# Altium footprint library IPC-SM-782 Section 14.1.2 PBGA 1.27mm.PcbLib: 49 footprints (part 1 of 11)
Each footprint in its own frame and in the unit in brackets; x right, y up, seen from the top. Pads: shape width x height; smd on the part's side, far side on the other; paste and mask are expansions set on the pad; w line width, h text height; cw(c..) or ccw(c..) is an arc to the next point about the centre after c.
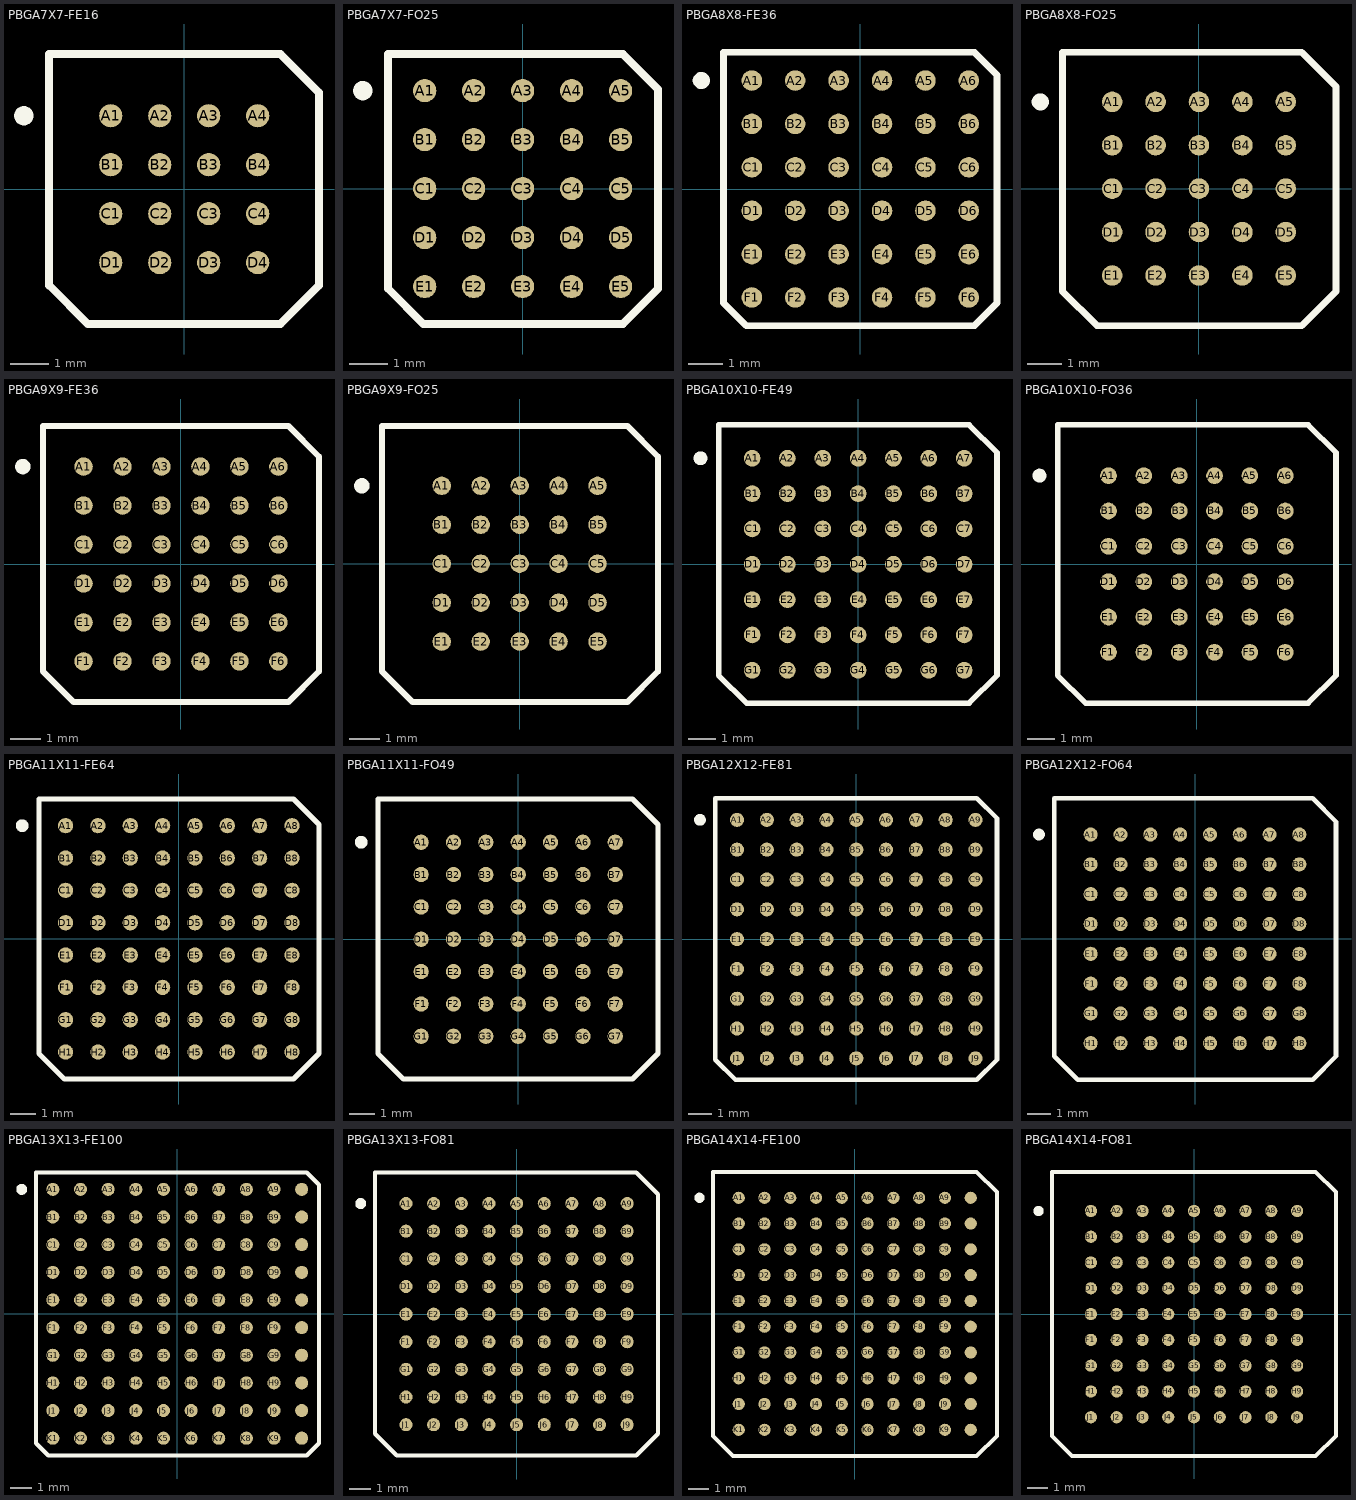
[diagram p0: the footprints below, top view; thin cyan lines are the x and y axes]

## PBGA7X7-FE16 [mm] "BGA; 16 Balls; Body 7 x 7 mm; Pitch 1.27 mm"
height 3.5
pads (16):
  round 0.6 smd: A1(-1.905,1.905) A2(-0.635,1.905) A3(0.635,1.905) A4(1.905,1.905) B1(-1.905,0.635) B2(-0.635,0.635) B3(0.635,0.635) B4(1.905,0.635) C1(-1.905,-0.635) C2(-0.635,-0.635) C3(0.635,-0.635) C4(1.905,-0.635) D1(-1.905,-1.905) D2(-0.635,-1.905) D3(0.635,-1.905) D4(1.905,-1.905)
Top Overlay:
  circle w0.25: c-4.16,1.905 r0.125
  lines w0.2: -3.505,-2.495 -2.505,-3.495 2.495,-3.495 3.495,-2.495 3.495,2.505 2.495,3.505 -3.505,3.505 -3.505,-2.495

## PBGA7X7-FO25 [mm] "BGA; 25 Balls; Body 7 x 7 mm; Pitch 1.27 mm"
height 3.5
pads (25):
  round 0.6 smd: A1(-2.54,2.54) A2(-1.27,2.54) A3(0,2.54) A4(1.27,2.54) A5(2.54,2.54) B1(-2.54,1.27) B2(-1.27,1.27) B3(0,1.27) B4(1.27,1.27) B5(2.54,1.27) C1(-2.54,0) C2(-1.27,0) C3(0,0) C4(1.27,0) C5(2.54,0) D1(-2.54,-1.27) D2(-1.27,-1.27) D3(0,-1.27) D4(1.27,-1.27) D5(2.54,-1.27) E1(-2.54,-2.54) E2(-1.27,-2.54) E3(0,-2.54) E4(1.27,-2.54) E5(2.54,-2.54)
Top Overlay:
  circle w0.25: c-4.145,2.54 r0.125
  lines w0.2: -3.49,-2.6 -3.49,3.49 2.6,3.49 3.51,2.58 3.51,-2.6 2.6,-3.51 -2.58,-3.51 -3.49,-2.6

## PBGA8X8-FE36 [mm] "BGA; 36 Balls; Body 8 x 8 mm; Pitch 1.27 mm"
height 3.5
pads (36):
  round 0.6 smd: A1(-3.175,3.175) A2(-1.905,3.175) A3(-0.635,3.175) A4(0.635,3.175) A5(1.905,3.175) A6(3.175,3.175) B1(-3.175,1.905) B2(-1.905,1.905) B3(-0.635,1.905) B4(0.635,1.905) B5(1.905,1.905) B6(3.175,1.905) C1(-3.175,0.635) C2(-1.905,0.635) C3(-0.635,0.635) C4(0.635,0.635) C5(1.905,0.635) C6(3.175,0.635) D1(-3.175,-0.635) D2(-1.905,-0.635) D3(-0.635,-0.635) D4(0.635,-0.635) D5(1.905,-0.635) D6(3.175,-0.635) E1(-3.175,-1.905) E2(-1.905,-1.905) E3(-0.635,-1.905) E4(0.635,-1.905) E5(1.905,-1.905) E6(3.175,-1.905) F1(-3.175,-3.175) F2(-1.905,-3.175) F3(-0.635,-3.175) F4(0.635,-3.175) F5(1.905,-3.175) F6(3.175,-3.175)
Top Overlay:
  circle w0.25: c-4.655,3.175 r0.125
  lines w0.2: -4,-3.34 -3.34,-4 3.34,-4 4,-3.34 4,3.34 3.34,4 -4,4 -4,-3.34

## PBGA8X8-FO25 [mm] "BGA; 25 Balls; Body 8 x 8 mm; Pitch 1.27 mm"
height 3.5
pads (25):
  round 0.6 smd: A1(-2.54,2.54) A2(-1.27,2.54) A3(0,2.54) A4(1.27,2.54) A5(2.54,2.54) B1(-2.54,1.27) B2(-1.27,1.27) B3(0,1.27) B4(1.27,1.27) B5(2.54,1.27) C1(-2.54,0) C2(-1.27,0) C3(0,0) C4(1.27,0) C5(2.54,0) D1(-2.54,-1.27) D2(-1.27,-1.27) D3(0,-1.27) D4(1.27,-1.27) D5(2.54,-1.27) E1(-2.54,-2.54) E2(-1.27,-2.54) E3(0,-2.54) E4(1.27,-2.54) E5(2.54,-2.54)
Top Overlay:
  circle w0.25: c-4.645,2.54 r0.125
  lines w0.2: -3.99,-3.01 -2.99,-4.01 3.01,-4.01 4.01,-3.01 4.01,2.99 3.01,3.99 -3.99,3.99 -3.99,-3.01

## PBGA9X9-FE36 [mm] "BGA; 36 Balls; Body 9 x 9 mm; Pitch 1.27 mm"
height 3.5
pads (36):
  round 0.6 smd: A1(-3.175,3.175) A2(-1.905,3.175) A3(-0.635,3.175) A4(0.635,3.175) A5(1.905,3.175) A6(3.175,3.175) B1(-3.175,1.905) B2(-1.905,1.905) B3(-0.635,1.905) B4(0.635,1.905) B5(1.905,1.905) B6(3.175,1.905) C1(-3.175,0.635) C2(-1.905,0.635) C3(-0.635,0.635) C4(0.635,0.635) C5(1.905,0.635) C6(3.175,0.635) D1(-3.175,-0.635) D2(-1.905,-0.635) D3(-0.635,-0.635) D4(0.635,-0.635) D5(1.905,-0.635) D6(3.175,-0.635) E1(-3.175,-1.905) E2(-1.905,-1.905) E3(-0.635,-1.905) E4(0.635,-1.905) E5(1.905,-1.905) E6(3.175,-1.905) F1(-3.175,-3.175) F2(-1.905,-3.175) F3(-0.635,-3.175) F4(0.635,-3.175) F5(1.905,-3.175) F6(3.175,-3.175)
Top Overlay:
  circle w0.25: c-5.155,3.175 r0.125
  lines w0.2: -4.5,-3.5 -4.5,4.5 3.5,4.5 4.5,3.5 4.5,-3.5 3.5,-4.5 -3.5,-4.5 -4.5,-3.5

## PBGA9X9-FO25 [mm] "BGA; 25 Balls; Body 9 x 9 mm; Pitch 1.27 mm"
height 3.5
pads (25):
  round 0.6 smd: A1(-2.54,2.54) A2(-1.27,2.54) A3(0,2.54) A4(1.27,2.54) A5(2.54,2.54) B1(-2.54,1.27) B2(-1.27,1.27) B3(0,1.27) B4(1.27,1.27) B5(2.54,1.27) C1(-2.54,0) C2(-1.27,0) C3(0,0) C4(1.27,0) C5(2.54,0) D1(-2.54,-1.27) D2(-1.27,-1.27) D3(0,-1.27) D4(1.27,-1.27) D5(2.54,-1.27) E1(-2.54,-2.54) E2(-1.27,-2.54) E3(0,-2.54) E4(1.27,-2.54) E5(2.54,-2.54)
Top Overlay:
  circle w0.25: c-5.145,2.54 r0.125
  lines w0.2: -4.49,-3.51 -3.49,-4.51 3.51,-4.51 4.51,-3.51 4.51,3.49 3.51,4.49 -4.49,4.49 -4.49,-3.51

## PBGA10X10-FE49 [mm] "BGA; 49 Balls; Body 10 x 10 mm; Pitch 1.27 mm"
height 3.5
pads (49):
  round 0.6 smd: A1(-3.81,3.81) A2(-2.54,3.81) A3(-1.27,3.81) A4(0,3.81) A5(1.27,3.81) A6(2.54,3.81) A7(3.81,3.81) B1(-3.81,2.54) B2(-2.54,2.54) B3(-1.27,2.54) B4(0,2.54) B5(1.27,2.54) B6(2.54,2.54) B7(3.81,2.54) C1(-3.81,1.27) C2(-2.54,1.27) C3(-1.27,1.27) C4(0,1.27) C5(1.27,1.27) C6(2.54,1.27) C7(3.81,1.27) D1(-3.81,0) D2(-2.54,0) D3(-1.27,0) D4(0,0) D5(1.27,0) D6(2.54,0) D7(3.81,0) E1(-3.81,-1.27) E2(-2.54,-1.27) E3(-1.27,-1.27) E4(0,-1.27) E5(1.27,-1.27) E6(2.54,-1.27) E7(3.81,-1.27) F1(-3.81,-2.54) F2(-2.54,-2.54) F3(-1.27,-2.54) F4(0,-2.54) F5(1.27,-2.54) F6(2.54,-2.54) F7(3.81,-2.54) G1(-3.81,-3.81) G2(-2.54,-3.81) G3(-1.27,-3.81) G4(0,-3.81) G5(1.27,-3.81) G6(2.54,-3.81) G7(3.81,-3.81)
Top Overlay:
  circle w0.25: c-5.665,3.81 r0.125
  lines w0.2: -5.01,-3.99 -5.01,5.01 3.99,5.01 4.99,4.01 4.99,-3.99 3.99,-4.99 -4.01,-4.99 -5.01,-3.99

## PBGA10X10-FO36 [mm] "BGA; 36 Balls; Body 10 x 10 mm; Pitch 1.27 mm"
height 3.5
pads (36):
  round 0.6 smd: A1(-3.175,3.175) A2(-1.905,3.175) A3(-0.635,3.175) A4(0.635,3.175) A5(1.905,3.175) A6(3.175,3.175) B1(-3.175,1.905) B2(-1.905,1.905) B3(-0.635,1.905) B4(0.635,1.905) B5(1.905,1.905) B6(3.175,1.905) C1(-3.175,0.635) C2(-1.905,0.635) C3(-0.635,0.635) C4(0.635,0.635) C5(1.905,0.635) C6(3.175,0.635) D1(-3.175,-0.635) D2(-1.905,-0.635) D3(-0.635,-0.635) D4(0.635,-0.635) D5(1.905,-0.635) D6(3.175,-0.635) E1(-3.175,-1.905) E2(-1.905,-1.905) E3(-0.635,-1.905) E4(0.635,-1.905) E5(1.905,-1.905) E6(3.175,-1.905) F1(-3.175,-3.175) F2(-1.905,-3.175) F3(-0.635,-3.175) F4(0.635,-3.175) F5(1.905,-3.175) F6(3.175,-3.175)
Top Overlay:
  circle w0.25: c-5.655,3.175 r0.125
  lines w0.2: -5,-4 -4,-5 4,-5 5,-4 5,4 4,5 -5,5 -5,-4

## PBGA11X11-FE64 [mm] "BGA; 64 Balls; Body 11 x 11 mm; Pitch 1.27 mm"
height 3.5
pads (64):
  round 0.6 smd: A1(-4.445,4.445) A2(-3.175,4.445) A3(-1.905,4.445) A4(-0.635,4.445) A5(0.635,4.445) A6(1.905,4.445) A7(3.175,4.445) A8(4.445,4.445) B1(-4.445,3.175) B2(-3.175,3.175) B3(-1.905,3.175) B4(-0.635,3.175) B5(0.635,3.175) B6(1.905,3.175) B7(3.175,3.175) B8(4.445,3.175) C1(-4.445,1.905) C2(-3.175,1.905) C3(-1.905,1.905) C4(-0.635,1.905) C5(0.635,1.905) C6(1.905,1.905) C7(3.175,1.905) C8(4.445,1.905) D1(-4.445,0.635) D2(-3.175,0.635) D3(-1.905,0.635) D4(-0.635,0.635) D5(0.635,0.635) D6(1.905,0.635) D7(3.175,0.635) D8(4.445,0.635) E1(-4.445,-0.635) E2(-3.175,-0.635) E3(-1.905,-0.635) E4(-0.635,-0.635) E5(0.635,-0.635) E6(1.905,-0.635) E7(3.175,-0.635) E8(4.445,-0.635) F1(-4.445,-1.905) F2(-3.175,-1.905) F3(-1.905,-1.905) F4(-0.635,-1.905) F5(0.635,-1.905) F6(1.905,-1.905) F7(3.175,-1.905) F8(4.445,-1.905) G1(-4.445,-3.175) G2(-3.175,-3.175) G3(-1.905,-3.175) G4(-0.635,-3.175) G5(0.635,-3.175) G6(1.905,-3.175) G7(3.175,-3.175) G8(4.445,-3.175) H1(-4.445,-4.445) H2(-3.175,-4.445) H3(-1.905,-4.445) H4(-0.635,-4.445) H5(0.635,-4.445) H6(1.905,-4.445) H7(3.175,-4.445) H8(4.445,-4.445)
Top Overlay:
  circle w0.25: c-6.15,4.445 r0.125
  lines w0.2: -5.495,-4.505 -4.495,-5.505 4.505,-5.505 5.505,-4.505 5.505,4.495 4.505,5.495 -5.495,5.495 -5.495,-4.505

## PBGA11X11-FO49 [mm] "BGA; 49 Balls; Body 11 x 11 mm; Pitch 1.27 mm"
height 3.5
pads (49):
  round 0.6 smd: A1(-3.81,3.81) A2(-2.54,3.81) A3(-1.27,3.81) A4(0,3.81) A5(1.27,3.81) A6(2.54,3.81) A7(3.81,3.81) B1(-3.81,2.54) B2(-2.54,2.54) B3(-1.27,2.54) B4(0,2.54) B5(1.27,2.54) B6(2.54,2.54) B7(3.81,2.54) C1(-3.81,1.27) C2(-2.54,1.27) C3(-1.27,1.27) C4(0,1.27) C5(1.27,1.27) C6(2.54,1.27) C7(3.81,1.27) D1(-3.81,0) D2(-2.54,0) D3(-1.27,0) D4(0,0) D5(1.27,0) D6(2.54,0) D7(3.81,0) E1(-3.81,-1.27) E2(-2.54,-1.27) E3(-1.27,-1.27) E4(0,-1.27) E5(1.27,-1.27) E6(2.54,-1.27) E7(3.81,-1.27) F1(-3.81,-2.54) F2(-2.54,-2.54) F3(-1.27,-2.54) F4(0,-2.54) F5(1.27,-2.54) F6(2.54,-2.54) F7(3.81,-2.54) G1(-3.81,-3.81) G2(-2.54,-3.81) G3(-1.27,-3.81) G4(0,-3.81) G5(1.27,-3.81) G6(2.54,-3.81) G7(3.81,-3.81)
Top Overlay:
  circle w0.25: c-6.165,3.81 r0.125
  lines w0.2: -5.51,-4.49 -4.51,-5.49 4.49,-5.49 5.49,-4.49 5.49,4.51 4.49,5.51 -5.51,5.51 -5.51,-4.49

## PBGA12X12-FE81 [mm] "BGA; 81 Balls; Body 12 x 12 mm; Pitch 1.27 mm"
height 3.5
pads (81):
  round 0.6 smd: A1(-5.08,5.08) A2(-3.81,5.08) A3(-2.54,5.08) A4(-1.27,5.08) A5(0,5.08) A6(1.27,5.08) A7(2.54,5.08) A8(3.81,5.08) A9(5.08,5.08) B1(-5.08,3.81) B2(-3.81,3.81) B3(-2.54,3.81) B4(-1.27,3.81) B5(0,3.81) B6(1.27,3.81) B7(2.54,3.81) B8(3.81,3.81) B9(5.08,3.81) C1(-5.08,2.54) C2(-3.81,2.54) C3(-2.54,2.54) C4(-1.27,2.54) C5(0,2.54) C6(1.27,2.54) C7(2.54,2.54) C8(3.81,2.54) C9(5.08,2.54) D1(-5.08,1.27) D2(-3.81,1.27) D3(-2.54,1.27) D4(-1.27,1.27) D5(0,1.27) D6(1.27,1.27) D7(2.54,1.27) D8(3.81,1.27) D9(5.08,1.27) E1(-5.08,0) E2(-3.81,0) E3(-2.54,0) E4(-1.27,0) E5(0,0) E6(1.27,0) E7(2.54,0) E8(3.81,0) E9(5.08,0) F1(-5.08,-1.27) F2(-3.81,-1.27) F3(-2.54,-1.27) F4(-1.27,-1.27) F5(0,-1.27) F6(1.27,-1.27) F7(2.54,-1.27) F8(3.81,-1.27) F9(5.08,-1.27) G1(-5.08,-2.54) G2(-3.81,-2.54) G3(-2.54,-2.54) G4(-1.27,-2.54) G5(0,-2.54) G6(1.27,-2.54) G7(2.54,-2.54) G8(3.81,-2.54) G9(5.08,-2.54) H1(-5.08,-3.81) H2(-3.81,-3.81) H3(-2.54,-3.81) H4(-1.27,-3.81) H5(0,-3.81) H6(1.27,-3.81) H7(2.54,-3.81) H8(3.81,-3.81) H9(5.08,-3.81) J1(-5.08,-5.08) J2(-3.81,-5.08) J3(-2.54,-5.08) J4(-1.27,-5.08) J5(0,-5.08) J6(1.27,-5.08) J7(2.54,-5.08) J8(3.81,-5.08) J9(5.08,-5.08)
Top Overlay:
  circle w0.25: c-6.66,5.08 r0.125
  lines w0.2: -6.005,-5.135 -6.005,6.005 5.135,6.005 5.995,5.145 5.995,-5.135 5.135,-5.995 -5.145,-5.995 -6.005,-5.135

## PBGA12X12-FO64 [mm] "BGA; 64 Balls; Body 12 x 12 mm; Pitch 1.27 mm"
height 3.5
pads (64):
  round 0.6 smd: A1(-4.445,4.445) A2(-3.175,4.445) A3(-1.905,4.445) A4(-0.635,4.445) A5(0.635,4.445) A6(1.905,4.445) A7(3.175,4.445) A8(4.445,4.445) B1(-4.445,3.175) B2(-3.175,3.175) B3(-1.905,3.175) B4(-0.635,3.175) B5(0.635,3.175) B6(1.905,3.175) B7(3.175,3.175) B8(4.445,3.175) C1(-4.445,1.905) C2(-3.175,1.905) C3(-1.905,1.905) C4(-0.635,1.905) C5(0.635,1.905) C6(1.905,1.905) C7(3.175,1.905) C8(4.445,1.905) D1(-4.445,0.635) D2(-3.175,0.635) D3(-1.905,0.635) D4(-0.635,0.635) D5(0.635,0.635) D6(1.905,0.635) D7(3.175,0.635) D8(4.445,0.635) E1(-4.445,-0.635) E2(-3.175,-0.635) E3(-1.905,-0.635) E4(-0.635,-0.635) E5(0.635,-0.635) E6(1.905,-0.635) E7(3.175,-0.635) E8(4.445,-0.635) F1(-4.445,-1.905) F2(-3.175,-1.905) F3(-1.905,-1.905) F4(-0.635,-1.905) F5(0.635,-1.905) F6(1.905,-1.905) F7(3.175,-1.905) F8(4.445,-1.905) G1(-4.445,-3.175) G2(-3.175,-3.175) G3(-1.905,-3.175) G4(-0.635,-3.175) G5(0.635,-3.175) G6(1.905,-3.175) G7(3.175,-3.175) G8(4.445,-3.175) H1(-4.445,-4.445) H2(-3.175,-4.445) H3(-1.905,-4.445) H4(-0.635,-4.445) H5(0.635,-4.445) H6(1.905,-4.445) H7(3.175,-4.445) H8(4.445,-4.445)
Top Overlay:
  circle w0.25: c-6.65,4.445 r0.125
  lines w0.2: -5.995,-5.005 -4.995,-6.005 5.005,-6.005 6.005,-5.005 6.005,4.995 5.005,5.995 -5.995,5.995 -5.995,-5.005

## PBGA13X13-FE100 [mm] "BGA; 100 Balls; Body 13 x 13 mm; Pitch 1.27 mm"
height 3.5
pads (100):
  round 0.6 smd: A1(-5.715,5.715) A2(-4.445,5.715) A3(-3.175,5.715) A4(-1.905,5.715) A5(-0.635,5.715) A6(0.635,5.715) A7(1.905,5.715) A8(3.175,5.715) A9(4.445,5.715) A10(5.715,5.715) B1(-5.715,4.445) B2(-4.445,4.445) B3(-3.175,4.445) B4(-1.905,4.445) B5(-0.635,4.445) B6(0.635,4.445) B7(1.905,4.445) B8(3.175,4.445) B9(4.445,4.445) B10(5.715,4.445) C1(-5.715,3.175) C2(-4.445,3.175) C3(-3.175,3.175) C4(-1.905,3.175) C5(-0.635,3.175) C6(0.635,3.175) C7(1.905,3.175) C8(3.175,3.175) C9(4.445,3.175) C10(5.715,3.175) D1(-5.715,1.905) D2(-4.445,1.905) D3(-3.175,1.905) D4(-1.905,1.905) D5(-0.635,1.905) D6(0.635,1.905) D7(1.905,1.905) D8(3.175,1.905) D9(4.445,1.905) D10(5.715,1.905) E1(-5.715,0.635) E2(-4.445,0.635) E3(-3.175,0.635) E4(-1.905,0.635) E5(-0.635,0.635) E6(0.635,0.635) E7(1.905,0.635) E8(3.175,0.635) E9(4.445,0.635) E10(5.715,0.635) F1(-5.715,-0.635) F2(-4.445,-0.635) F3(-3.175,-0.635) F4(-1.905,-0.635) F5(-0.635,-0.635) F6(0.635,-0.635) F7(1.905,-0.635) F8(3.175,-0.635) F9(4.445,-0.635) F10(5.715,-0.635) G1(-5.715,-1.905) G2(-4.445,-1.905) G3(-3.175,-1.905) G4(-1.905,-1.905) G5(-0.635,-1.905) G6(0.635,-1.905) G7(1.905,-1.905) G8(3.175,-1.905) G9(4.445,-1.905) G10(5.715,-1.905) H1(-5.715,-3.175) H2(-4.445,-3.175) H3(-3.175,-3.175) H4(-1.905,-3.175) H5(-0.635,-3.175) H6(0.635,-3.175) H7(1.905,-3.175) H8(3.175,-3.175) H9(4.445,-3.175) H10(5.715,-3.175) J1(-5.715,-4.445) J2(-4.445,-4.445) J3(-3.175,-4.445) J4(-1.905,-4.445) J5(-0.635,-4.445) J6(0.635,-4.445) J7(1.905,-4.445) J8(3.175,-4.445) J9(4.445,-4.445) J10(5.715,-4.445) K1(-5.715,-5.715) K2(-4.445,-5.715) K3(-3.175,-5.715) K4(-1.905,-5.715) K5(-0.635,-5.715) K6(0.635,-5.715) K7(1.905,-5.715) K8(3.175,-5.715) K9(4.445,-5.715) K10(5.715,-5.715)
Top Overlay:
  circle w0.25: c-7.145,5.715 r0.125
  lines w0.2: -6.49,-5.95 -5.93,-6.51 5.95,-6.51 6.51,-5.95 6.51,5.93 5.95,6.49 -6.49,6.49 -6.49,-5.95

## PBGA13X13-FO81 [mm] "BGA; 81 Balls; Body 13 x 13 mm; Pitch 1.27 mm"
height 3.5
pads (81):
  round 0.6 smd: A1(-5.08,5.08) A2(-3.81,5.08) A3(-2.54,5.08) A4(-1.27,5.08) A5(0,5.08) A6(1.27,5.08) A7(2.54,5.08) A8(3.81,5.08) A9(5.08,5.08) B1(-5.08,3.81) B2(-3.81,3.81) B3(-2.54,3.81) B4(-1.27,3.81) B5(0,3.81) B6(1.27,3.81) B7(2.54,3.81) B8(3.81,3.81) B9(5.08,3.81) C1(-5.08,2.54) C2(-3.81,2.54) C3(-2.54,2.54) C4(-1.27,2.54) C5(0,2.54) C6(1.27,2.54) C7(2.54,2.54) C8(3.81,2.54) C9(5.08,2.54) D1(-5.08,1.27) D2(-3.81,1.27) D3(-2.54,1.27) D4(-1.27,1.27) D5(0,1.27) D6(1.27,1.27) D7(2.54,1.27) D8(3.81,1.27) D9(5.08,1.27) E1(-5.08,0) E2(-3.81,0) E3(-2.54,0) E4(-1.27,0) E5(0,0) E6(1.27,0) E7(2.54,0) E8(3.81,0) E9(5.08,0) F1(-5.08,-1.27) F2(-3.81,-1.27) F3(-2.54,-1.27) F4(-1.27,-1.27) F5(0,-1.27) F6(1.27,-1.27) F7(2.54,-1.27) F8(3.81,-1.27) F9(5.08,-1.27) G1(-5.08,-2.54) G2(-3.81,-2.54) G3(-2.54,-2.54) G4(-1.27,-2.54) G5(0,-2.54) G6(1.27,-2.54) G7(2.54,-2.54) G8(3.81,-2.54) G9(5.08,-2.54) H1(-5.08,-3.81) H2(-3.81,-3.81) H3(-2.54,-3.81) H4(-1.27,-3.81) H5(0,-3.81) H6(1.27,-3.81) H7(2.54,-3.81) H8(3.81,-3.81) H9(5.08,-3.81) J1(-5.08,-5.08) J2(-3.81,-5.08) J3(-2.54,-5.08) J4(-1.27,-5.08) J5(0,-5.08) J6(1.27,-5.08) J7(2.54,-5.08) J8(3.81,-5.08) J9(5.08,-5.08)
Top Overlay:
  circle w0.25: c-7.16,5.08 r0.125
  lines w0.2: -6.505,-5.495 -6.505,6.505 5.495,6.505 6.495,5.505 6.495,-5.495 5.495,-6.495 -5.505,-6.495 -6.505,-5.495

## PBGA14X14-FE100 [mm] "BGA; 100 Balls; Body 14 x 14 mm; Pitch 1.27 mm"
height 3.5
pads (100):
  round 0.6 smd: A1(-5.715,5.715) A2(-4.445,5.715) A3(-3.175,5.715) A4(-1.905,5.715) A5(-0.635,5.715) A6(0.635,5.715) A7(1.905,5.715) A8(3.175,5.715) A9(4.445,5.715) A10(5.715,5.715) B1(-5.715,4.445) B2(-4.445,4.445) B3(-3.175,4.445) B4(-1.905,4.445) B5(-0.635,4.445) B6(0.635,4.445) B7(1.905,4.445) B8(3.175,4.445) B9(4.445,4.445) B10(5.715,4.445) C1(-5.715,3.175) C2(-4.445,3.175) C3(-3.175,3.175) C4(-1.905,3.175) C5(-0.635,3.175) C6(0.635,3.175) C7(1.905,3.175) C8(3.175,3.175) C9(4.445,3.175) C10(5.715,3.175) D1(-5.715,1.905) D2(-4.445,1.905) D3(-3.175,1.905) D4(-1.905,1.905) D5(-0.635,1.905) D6(0.635,1.905) D7(1.905,1.905) D8(3.175,1.905) D9(4.445,1.905) D10(5.715,1.905) E1(-5.715,0.635) E2(-4.445,0.635) E3(-3.175,0.635) E4(-1.905,0.635) E5(-0.635,0.635) E6(0.635,0.635) E7(1.905,0.635) E8(3.175,0.635) E9(4.445,0.635) E10(5.715,0.635) F1(-5.715,-0.635) F2(-4.445,-0.635) F3(-3.175,-0.635) F4(-1.905,-0.635) F5(-0.635,-0.635) F6(0.635,-0.635) F7(1.905,-0.635) F8(3.175,-0.635) F9(4.445,-0.635) F10(5.715,-0.635) G1(-5.715,-1.905) G2(-4.445,-1.905) G3(-3.175,-1.905) G4(-1.905,-1.905) G5(-0.635,-1.905) G6(0.635,-1.905) G7(1.905,-1.905) G8(3.175,-1.905) G9(4.445,-1.905) G10(5.715,-1.905) H1(-5.715,-3.175) H2(-4.445,-3.175) H3(-3.175,-3.175) H4(-1.905,-3.175) H5(-0.635,-3.175) H6(0.635,-3.175) H7(1.905,-3.175) H8(3.175,-3.175) H9(4.445,-3.175) H10(5.715,-3.175) J1(-5.715,-4.445) J2(-4.445,-4.445) J3(-3.175,-4.445) J4(-1.905,-4.445) J5(-0.635,-4.445) J6(0.635,-4.445) J7(1.905,-4.445) J8(3.175,-4.445) J9(4.445,-4.445) J10(5.715,-4.445) K1(-5.715,-5.715) K2(-4.445,-5.715) K3(-3.175,-5.715) K4(-1.905,-5.715) K5(-0.635,-5.715) K6(0.635,-5.715) K7(1.905,-5.715) K8(3.175,-5.715) K9(4.445,-5.715) K10(5.715,-5.715)
Top Overlay:
  circle w0.25: c-7.645,5.715 r0.125
  lines w0.2: -6.99,-6.01 -6.99,6.99 6.01,6.99 7.01,5.99 7.01,-6.01 6.01,-7.01 -5.99,-7.01 -6.99,-6.01

## PBGA14X14-FO81 [mm] "BGA; 81 Balls; Body 14 x 14 mm; Pitch 1.27 mm"
height 3.5
pads (81):
  round 0.6 smd: A1(-5.08,5.08) A2(-3.81,5.08) A3(-2.54,5.08) A4(-1.27,5.08) A5(0,5.08) A6(1.27,5.08) A7(2.54,5.08) A8(3.81,5.08) A9(5.08,5.08) B1(-5.08,3.81) B2(-3.81,3.81) B3(-2.54,3.81) B4(-1.27,3.81) B5(0,3.81) B6(1.27,3.81) B7(2.54,3.81) B8(3.81,3.81) B9(5.08,3.81) C1(-5.08,2.54) C2(-3.81,2.54) C3(-2.54,2.54) C4(-1.27,2.54) C5(0,2.54) C6(1.27,2.54) C7(2.54,2.54) C8(3.81,2.54) C9(5.08,2.54) D1(-5.08,1.27) D2(-3.81,1.27) D3(-2.54,1.27) D4(-1.27,1.27) D5(0,1.27) D6(1.27,1.27) D7(2.54,1.27) D8(3.81,1.27) D9(5.08,1.27) E1(-5.08,0) E2(-3.81,0) E3(-2.54,0) E4(-1.27,0) E5(0,0) E6(1.27,0) E7(2.54,0) E8(3.81,0) E9(5.08,0) F1(-5.08,-1.27) F2(-3.81,-1.27) F3(-2.54,-1.27) F4(-1.27,-1.27) F5(0,-1.27) F6(1.27,-1.27) F7(2.54,-1.27) F8(3.81,-1.27) F9(5.08,-1.27) G1(-5.08,-2.54) G2(-3.81,-2.54) G3(-2.54,-2.54) G4(-1.27,-2.54) G5(0,-2.54) G6(1.27,-2.54) G7(2.54,-2.54) G8(3.81,-2.54) G9(5.08,-2.54) H1(-5.08,-3.81) H2(-3.81,-3.81) H3(-2.54,-3.81) H4(-1.27,-3.81) H5(0,-3.81) H6(1.27,-3.81) H7(2.54,-3.81) H8(3.81,-3.81) H9(5.08,-3.81) J1(-5.08,-5.08) J2(-3.81,-5.08) J3(-2.54,-5.08) J4(-1.27,-5.08) J5(0,-5.08) J6(1.27,-5.08) J7(2.54,-5.08) J8(3.81,-5.08) J9(5.08,-5.08)
Top Overlay:
  circle w0.25: c-7.66,5.08 r0.125
  lines w0.2: -7.005,-5.995 -7.005,7.005 5.995,7.005 6.995,6.005 6.995,-5.995 5.995,-6.995 -6.005,-6.995 -7.005,-5.995